# Altium schematic symbol library PM8834M.Schlib: 1 symbol
Pins are listed as number, name and electrical type; pins without a type are passive.

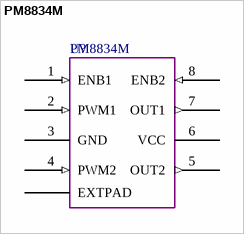
[diagram p0: symbol PM8834M]

## PM8834M
designator U?
pins: 0 EXTPAD (power), 1 ENB1 (in), 2 PWM1 (in), 3 GND (power), 4 PWM2 (in), 5 OUT2 (out), 6 VCC (power), 7 OUT1 (out), 8 ENB2 (in)